# Altium schematic symbol library Misc Connector Card.SchLib: 1 symbol
Pins are listed as number, name and electrical type; pins without a type are passive.

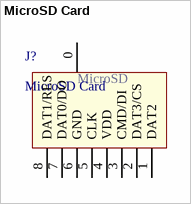
[diagram p0: symbol MicroSD Card]

## MicroSD Card
designator J?
footprint MicroSD Card (MicroSD卡卡座)
pins: 0, 1 DAT2, 2 DAT3/CS, 3 CMD/DI, 4 VDD, 5 CLK, 6 GND, 7 DAT0/DO, 8 DAT1/RES
text: MicroSD